# Altium footprint library canDrive_comp_pcb_lib.PcbLib: 33 footprints (part 3 of 3)
Each footprint in its own frame and in the unit in brackets; x right, y up, seen from the top. Pads: shape width x height; smd on the part's side, far side on the other; paste and mask are expansions set on the pad; w line width, h text height; cw(c..) or ccw(c..) is an arc to the next point about the centre after c.
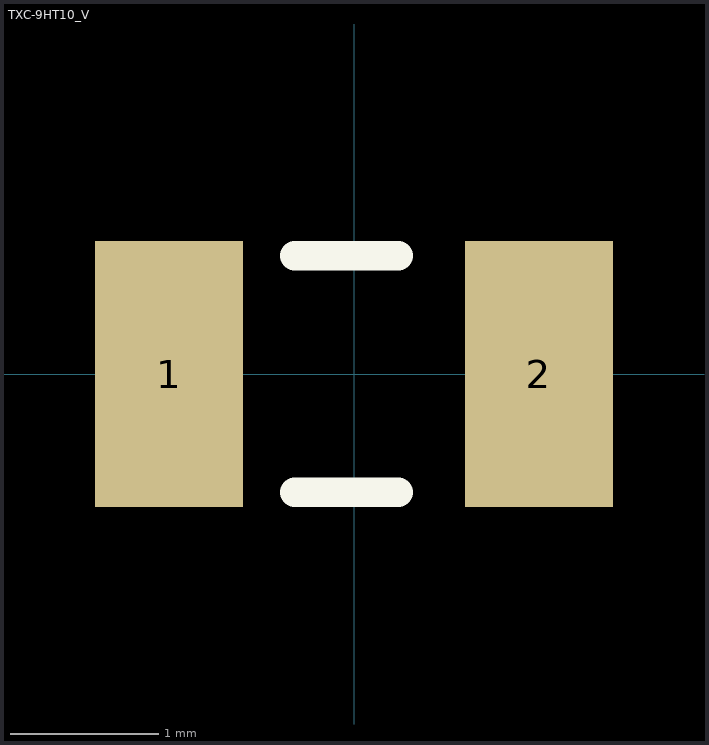
[diagram p2: the footprint, top view; thin cyan lines are the x and y axes]

## TXC-9HT10_V [mm] "SMD, 2-Leads, Body 3.2x1.5mm"
height 0.85
pads (2):
  rect 1x1.8 smd: 1(-1.25,0) 2(1.25,0)
Top Overlay:
  lines w0.2: -0.4,-0.8 0.3,-0.8 ; -0.4,0.8 0.3,0.8
3D body: height 0.85, standoff 0, extent -1.6,-0.75 1.6,0.75